# Altium footprint library IHLP4040DZER330M11.PcbLib: 1 footprints
Each footprint in its own frame and in the unit in brackets; x right, y up, seen from the top. Pads: shape width x height; smd on the part's side, far side on the other; paste and mask are expansions set on the pad; w line width, h text height; cw(c..) or ccw(c..) is an arc to the next point about the centre after c.
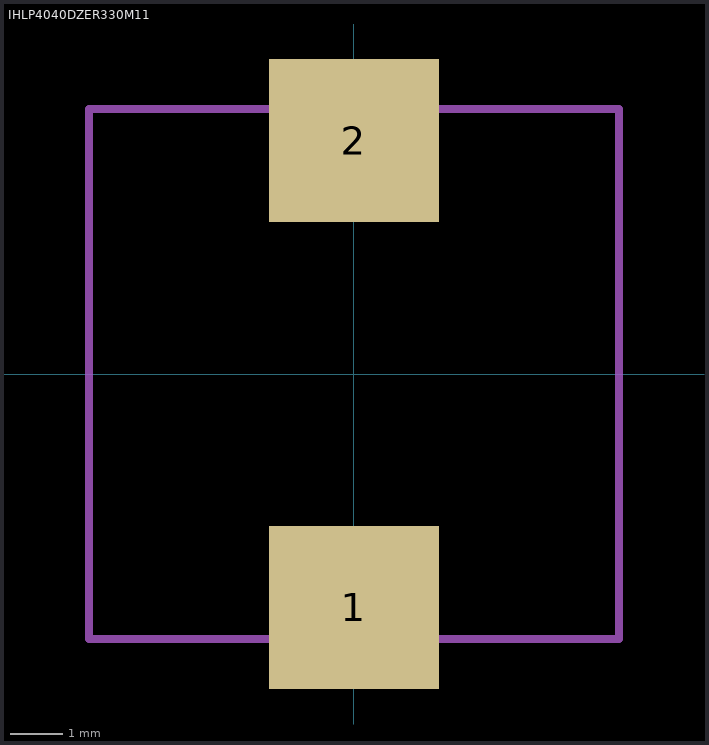
[diagram p0: the footprint, top view; thin cyan lines are the x and y axes]

## IHLP4040DZER330M11 [mm]
height 5
pads (2):
  rect 3.251x3.125 smd: 1(0,-4.471) 2(0,4.471)
Mechanical 1:
  lines w0.1: 0,-3.5 ccw(c0,-3.45) 0,-3.4 ccw(c0,-3.45) 0,-3.5
  lines w0.15: -5.08,-5.08 5.08,-5.08 5.08,5.08 -5.08,5.08 -5.08,-5.08
3D body "ihlp4040dzer.step": height 3.85, standoff -0.03, extent -5.108,-5.311 5.108,5.311